# EAGLE library part SENSOR-MISCELANEOUS (library Sensores)
Módulo con sensores que se agregaran mas tarde si son necesarios
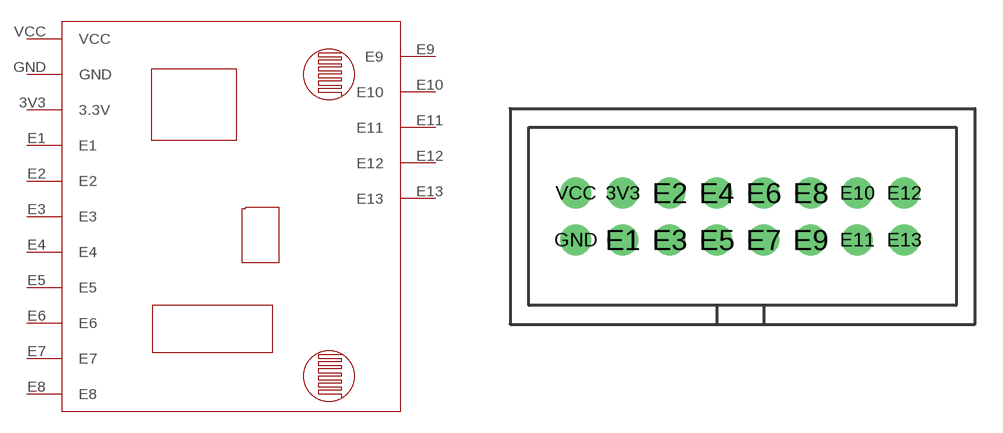
[diagram p2: symbol with the pads of SENSOR-MISCELANEOUS; footprint SENSOR-MISCELANEOUS]

Designator prefix -

## SENSOR-MISCELANEOUS  [SENSOR-MISCELANEOUS]
3V3  3.3V
E1  E1
E2  E2
E3  E3
E4  E4
E5  E5
E6  E6
E7  E7
E8  E8
E9  E9
E10  E10
E11  E11
E12  E12
E13  E13
GND  GND
VCC  VCC

## Footprint SENSOR-MISCELANEOUS (pad centres in mm)
drill 0.6 pad 1.676: 3V3 -6.35,1.27; E1 -6.35,-1.27; E2 -3.81,1.27; E3 -3.81,-1.27; E4 -1.27,1.27; E5 -1.27,-1.27; E6 1.27,1.27; E7 1.27,-1.27; E8 3.81,1.27; E9 3.81,-1.27; E10 6.35,1.27; E11 6.35,-1.27; E12 8.89,1.27; E13 8.89,-1.27; GND -8.89,-1.27; VCC -8.89,1.27